# EAGLE library part LM25011_DGQ_10 (library LM25011_DGQ_10)
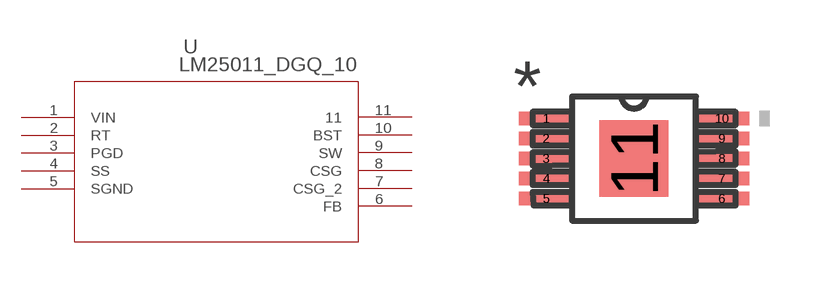
[diagram p0: symbol with the pads of MUC10A; footprint MUC10A]

Designator prefix U

## LM25011_DGQ_10 (BASEPN: LM25011; DATASHEETURL: http://www.ti.com/lit/ds/symlink/lm25011.pdf; DESCRIPTION: 42V, 2A Constant On-Time Switching Regulator with Adjustable Current Limit; MANUFACTURER: Texas Instruments; MANUFACTURER_PART_NUMBER: lm25011_dgq_10; NSC_PACKAGEREFERENCE: MUC10A; VENDOR: Texas Instruments)  [MUC10A]
1  VIN  in
2  RT  pas
3  PGD  pwr
4  SS  pas
5  SGND  pwr
6  FB  pas
7  CSG_2  pas
8  CSG  pas
9  SW  pas
10  BST  pas
11  11  pas

## Footprint MUC10A (pad centres in mm)
smd 1.372 x 0.33: 1 -2.197,1.001; 2 -2.197,0.5; 3 -2.197,0; 4 -2.197,-0.5; 5 -2.197,-1.001; 6 2.197,-1.001; 7 2.197,-0.5; 8 2.197,0; 9 2.197,0.5; 10 2.197,1.001
smd 1.727 x 1.905: 11 0,0